# Altium footprint library OMRON_G5LE-14_DC24.PcbLib: 1 footprints
Each footprint in its own frame and in the unit in brackets; x right, y up, seen from the top. Pads: shape width x height; smd on the part's side, far side on the other; paste and mask are expansions set on the pad; w line width, h text height; cw(c..) or ccw(c..) is an arc to the next point about the centre after c.
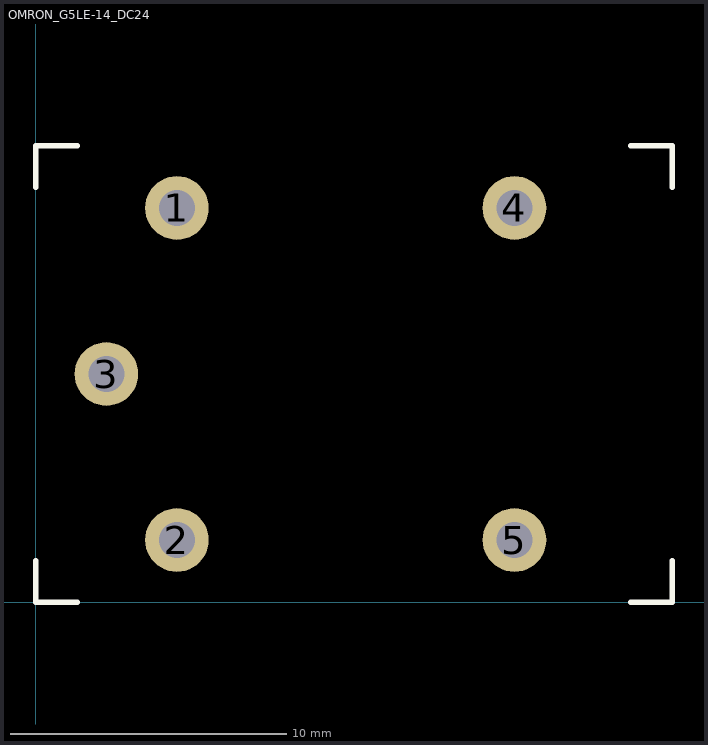
[diagram p0: the footprint, top view; thin cyan lines are the x and y axes]

## OMRON_G5LE-14_DC24 [mm] "Omron 24V 10A relay G5LE-14"
pads (5):
  round 2.3 hole 1.3: 1(5.1,14.25) 2(5.1,2.25) 3(2.55,8.25) 4(17.3,14.25) 5(17.3,2.25)
Top Overlay:
  lines w0.2: 0,1.5 0,0 1.5,0 ; 0,15 0,16.5 1.5,16.5 ; 21.5,0 23,0 23,1.5 ; 21.5,16.5 23,16.5 23,15